# Altium footprint library Harry_Connectors.PcbLib: 7 footprints
Each footprint in its own frame and in the unit in brackets; x right, y up, seen from the top. Pads: shape width x height; smd on the part's side, far side on the other; paste and mask are expansions set on the pad; w line width, h text height; cw(c..) or ccw(c..) is an arc to the next point about the centre after c.
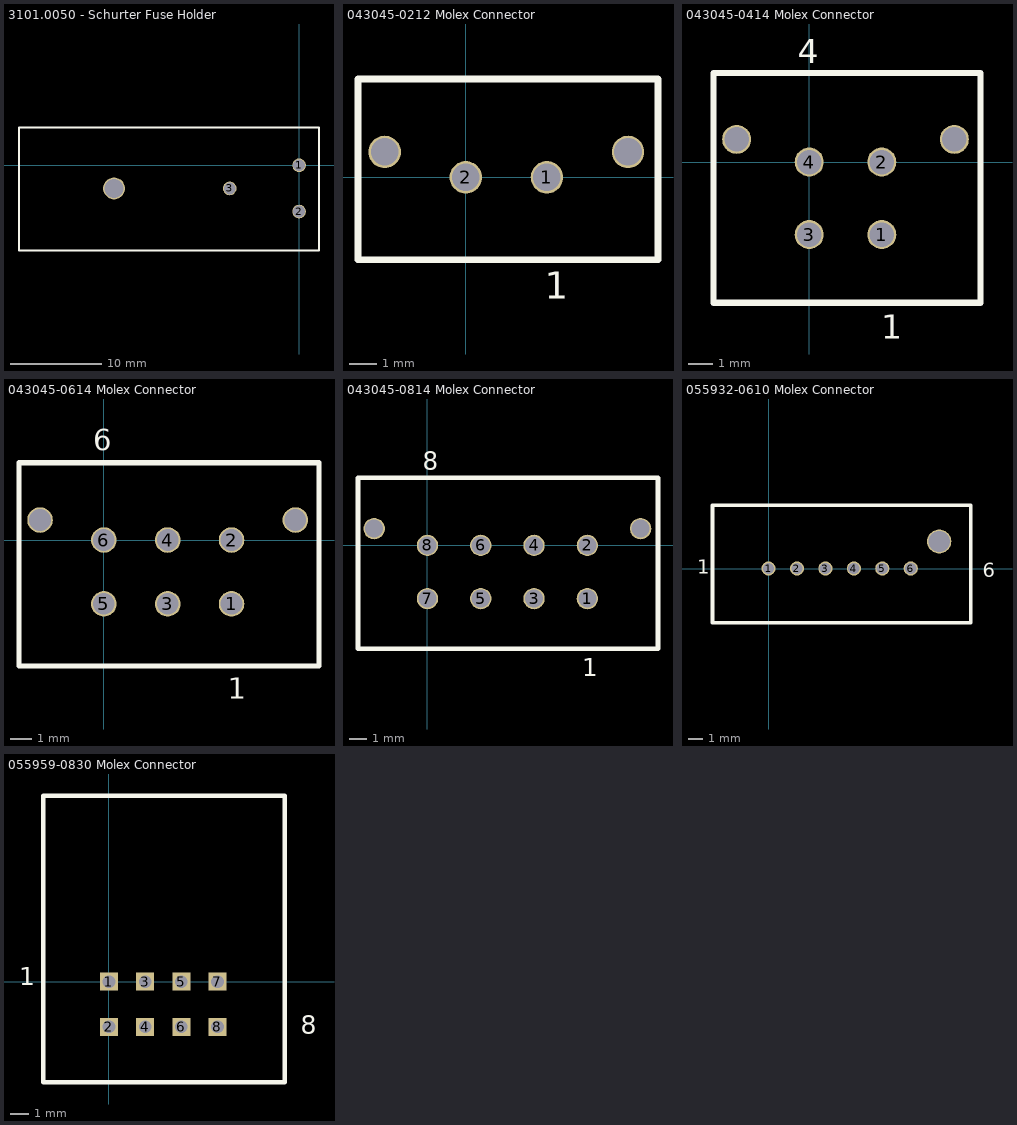
[diagram p0: the footprints below, top view; thin cyan lines are the x and y axes]

## 3101.0050 - Schurter Fuse Holder [mm] "Shock-Safe Fuseholder, 5 x 20 mm, Slotted Cap/Fingergrip, horizontal, IEC 60335-1"
pads (4):
  round 1.5 hole 1.3: 1(0,0) 2(0,-5.08) 3(-7.62,-2.54)
  round 2.4 hole 2.1: ""(-20.32,-2.54)
Top Overlay:
  lines w0.254: -30.759,-9.347 -30.759,4.14 2.184,4.14 2.184,-9.347 -30.759,-9.347
3D body "3101-005.stp": height 12.5, standoff -5.1, extent -30.273,-8.842 1.727,3.658

## 043045-0212 Molex Connector [mm]
pads (4):
  round 1.2 hole 1.02: 1(3,0) 2(0,0) ""(-3,0.94) ""(6,0.94)
Top Overlay:
  lines w0.254: -3.988,-3.048 -3.988,3.632 7.109,3.632 7.109,-3.048 -3.988,-3.048
  text "1" at 2.921,-4.496 h1

## 043045-0414 Molex Connector [mm] "Micro-Fit 3.0 Vertical Header, 3.00mm Pitch, Dual Row, 4 Circuits, with PCB Polarizing Peg, Gold, Glow Wire Capable, Black"
pads (6):
  round 1.2 hole 1.02: 1(3,-3) 2(3,0) 3(0,-3) 4(0,0) ""(-3,0.94) ""(6,0.94)
Top Overlay:
  lines w0.254: -3.962,-5.817 -3.962,3.683 7.087,3.683 7.087,-5.817 -3.962,-5.817
  text "4" at -0.483,4.089 h1
  text "1" at 2.972,-7.315 h1
3D body "430450414.stp": height 2.64, standoff -10.45, extent -3.576,-5.443 6.574,3.327

## 043045-0614 Molex Connector [mm] "Micro-Fit 3.0 Vertical Header, 3.00mm Pitch, Dual Row, 6 Circuits, with PCB Polarizing Peg, Gold, Glow Wire Capable, Black"
pads (8):
  round 1.2 hole 1.02: 1(6,-3) 2(6,0) 3(3,-3) 4(3,0) 5(0,-3) 6(0,0) ""(-3,0.94) ""(9,0.94)
Top Overlay:
  lines w0.254: -3.988,-5.918 -3.988,3.632 10.109,3.632 10.109,-5.918 -3.988,-5.918
  text "1" at 5.817,-7.468 h1
  text "6" at -0.508,4.216 h1
3D body "430450614.stp": height 9.95, standoff -3.14, extent -3.578,-5.494 9.572,3.276

## 043045-0814 Molex Connector [mm] "Micro-Fit 3.0 Vertical Header, 3.00mm Pitch, Dual Row, 8 Circuits, with PCB Polarizing Peg, Gold, Glow Wire Capable, Black"
pads (10):
  round 1.2 hole 1.02: 1(9,-3) 2(9,0) 3(6,-3) 4(6,0) 5(3,-3) 6(3,0) 7(0,-3) 8(0,0) ""(-3,0.94) ""(12,0.94)
Top Overlay:
  lines w0.254: -3.912,-5.817 12.979,-5.817 12.979,3.81 -3.912,3.81 -3.912,-5.817
  text "1" at 8.712,-7.366 h1
  text "8" at -0.254,4.267 h1
3D body "430450814.stp": height 9.95, standoff -3.14, extent -3.554,-5.418 12.596,3.352

## 055932-0610 Molex Connector [mm] "2.00mm Pitch MicroClasp Wire-to-Board Header, Single Row, Vertical, 6 Circuits, with PCB Locator"
pads (7):
  round 1 hole 0.8: 1(0,0) 2(2,0) 3(4,0) 4(6,0) 5(8,0) 6(10,0)
  round 1.7 hole 1.5: ""(12,1.9)
Top Overlay:
  lines w0.254: -3.937,-3.81 -3.937,4.445 14.224,4.445 14.224,-3.81 -3.937,-3.81
  text "6" at 15.062,-0.61 h1
  text "1" at -5.029,-0.381 h1
3D body "559320610.stp": height 9.75, standoff -3.2, extent -3.047,-3.027 12.953,3.673

## 055959-0830 Molex Connector [mm] "2.00mm Pitch MicroClasp Wire-to-Board Header, Dual Row, Right Angle, 8 Circuits"
pads (8):
  rect 1x1 hole 0.7 square: 1(0,0) 2(0,-2.5) 3(2,0) 4(2,-2.5) 5(4,0) 6(4,-2.5) 7(6,0) 8(6,-2.5)
Top Overlay:
  lines w0.254: -3.632,-5.563 9.728,-5.563 9.728,10.287 -3.632,10.287 -3.632,-5.563
  text "1" at -4.978,-0.203 h1
  text "8" at 10.617,-2.87 h1
3D body "559590830.stp": height 11.65, standoff -3.25, extent -2.652,-4.815 8.748,9.685